# EAGLE library part TPS61033X (library 00shaunc)
TI TPS61033X fully integrated synchronous boost converter. * TPS10333 (Fixed 5V outputl DigiKey No.: 296-TPS610333DRLRCT-ND)
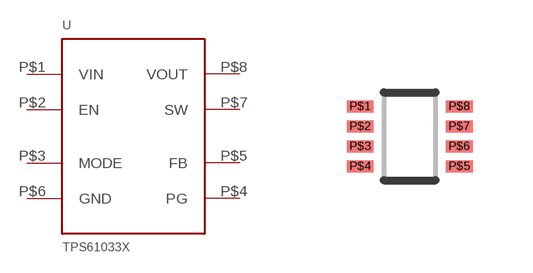
[diagram p15: symbol with the pads of SOT-583-8; footprint SOT-583-8]

Designator prefix -

## TPS61033X  [SOT-583-8]
P$1  VIN  in
P$2  EN  in
P$3  MODE  in
P$4  PG  in
P$5  FB  in
P$6  GND  in
P$7  SW  in
P$8  VOUT  out

## Footprint SOT-583-8 (pad centres in mm)
smd 0.67 x 0.3: P$1 -1.24,0.75; P$2 -1.24,0.25; P$3 -1.24,-0.25; P$4 -1.24,-0.75; P$5 1.24,-0.75; P$6 1.24,-0.25; P$7 1.24,0.25; P$8 1.24,0.75